# Altium schematic symbol library DE11XRA100KJ4BP01F.SchLib: 1 symbol
Pins are listed as number, name and electrical type; pins without a type are passive.

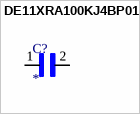
[diagram p0: symbol DE11XRA100KJ4BP01F]

## DE11XRA100KJ4BP01F
designator C?
MP: DE11XRA100KJ4BP01F; MF: {'manufacturer': u'Murata'}; Availability: Unavailable; Value: *; Package: None; Price: None
footprint CAP_DE11XRA100KJ4BP01F
pins: 1, 2